# Altium schematic symbol library SCH_LIB_Assignment1.SchLib: 17 symbols
Pins are listed as number, name and electrical type; pins without a type are passive.

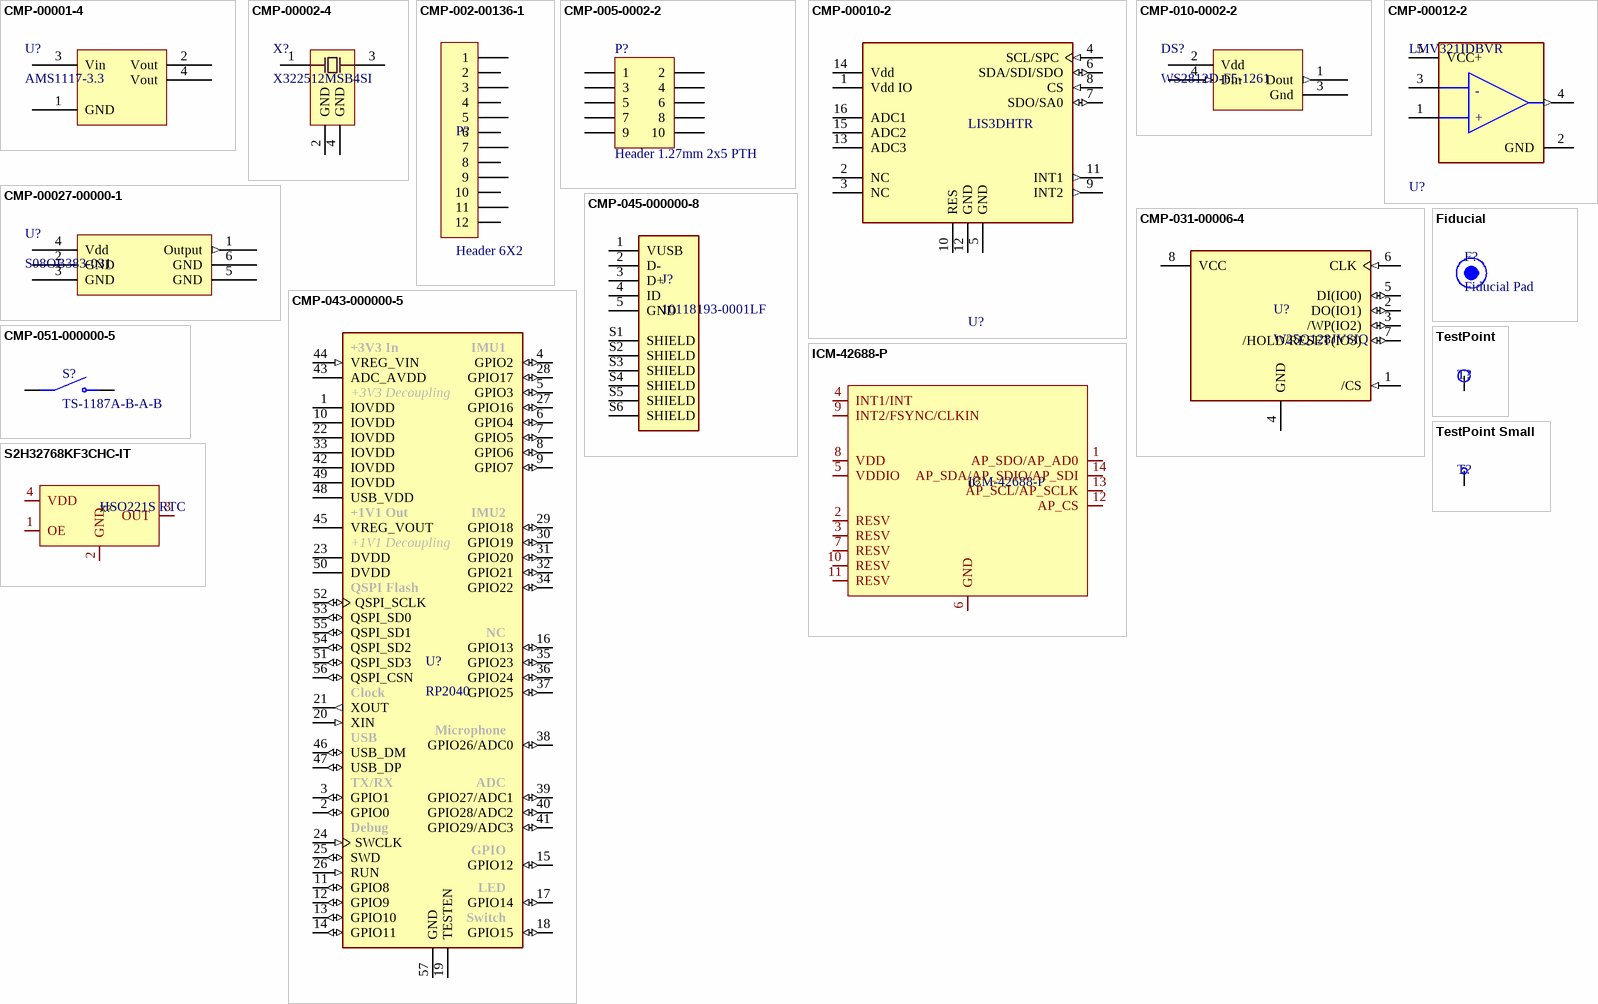
[diagram p0: symbols CMP-00001-4 to TestPoint Small]

## CMP-00001-4
designator U?, comment AMS1117-3.3
3.3V 1A LOW DROPOUT VOLTAGE REGULATOR SOT-223; Dropout voltage: 1.3 V; JLCPCB Part: C6186; Output current: 1 A; Output voltage: 3.3 V
footprint SOT230P700X180-4N (SOT223, 4-Leads, Body 6.51x7.00mm (avg), Pitch 2.30mm, IPC Medium Density)
pins: 1 GND (power), 2 Vout (power), 3 Vin (power), 4 Vout (power)

## CMP-00002-4
designator X?, comment X322512MSB4SI
12MHz SMD Crystal Resonator 20pF ±10ppm ±30ppm -40℃~+85℃ SMD3225-4P  Crystals ROHS Yangxing Tech; Max ESR: 80 Ω; Frequency: 12 MHz; JLCPCB Part: C9002; Load capacitance: 20 pF
footprint X322512MSB4SI-Footprint-1
pins: 1 OSC1, 2 GND, 3 OSC2, 4 GND

## CMP-002-00136-1
designator P?, comment Header 6X2
Header, 6-Pin, Dual row; Signal Integrity: Connector; Component Type: Standard; LatestRevisionNote: Re-released for DXP Platform.; Publisher: Altium Limited; Design Item ID: Header 6X2; LatestRevisionDate: 17-Jul-2002; Pin Count: 12; Source: Miscellaneous Connectors.SchLib
signal-integrity model Connector
footprint HDR2X6 (Connector; Header; 6x2 Position)
pins: 1, 2, 3, 4, 5, 6, 7, 8, 9, 10, 11, 12

## CMP-005-0002-2
designator P?, comment Header 1.27mm 2x5 PTH
Header 1.27mm pitch, 2x5, PTH through hole; Pins: 10; element14 Item: 1577743; Design Item ID: Header 1.27mm 2x5 PTH; Source: JCULibrary.SchLib; Component Type: Standard
footprint Header 1.27mm 2x5 PTH (Header 1.27mm pitch, 2x5, PTH through hole)
pins: 1, 2, 3, 4, 5, 6, 7, 8, 9, 10

## CMP-00010-2
designator U?, comment LIS3DHTR
ACCEL 2-16G I2C/SPI 16LGA; Interface: I2C; Max Supply Voltage: 3.6V; Axis: X, Y, Z; Operating Supply Voltage: 2.5V; Bandwidth: 5kHz; Resolution: 16b; Operating Supply Current: 11uA; Sensor Type: 3 Axis; Min Supply Voltage: 1.71V; Output Type: Digital; Series: -; Number of Pins: 16; Radiation Hardening: No; Package Quantity: 1; Case/Package: LGA; Contact Plating: Gold; Min Operating Temperature: -40°C; REACH SVHC: No SVHC; RoHS Compliant: Yes; Lead Free: Lead Free; Min Supply Voltage (DC): 1.71V; Length: 3mm; JLCPCB Part: C15134; Height: 1mm; Max Supply Voltage (DC): 3.6V; Width: 3mm; Max Operating Temperature: 85°C; Depth: 3mm; Packaging: Tape and Reel
footprint FP-LGA-16-7983231-MFG
pins: 1 Vdd IO (power), 2 NC, 3 NC, 4 SCL/SPC (in), 5 GND (power), 6 SDA/SDI/SDO (io), 7 SDO/SA0 (io), 8 CS (in), 9 INT2 (out), 10 RES, 11 INT1 (out), 12 GND (power), 13 ADC3, 14 Vdd (power), 15 ADC2, 16 ADC1

## CMP-010-0002-2
designator DS?, comment WS2812D-F5-1261
Through-hole addressable RGB LED, 5mm
footprint WS2812D-F5-1261-Footprint-1
pins: 1 Dout (out), 2 Vdd (power), 3 Gnd (power), 4 Din (in)

## CMP-00012-2
designator U?, comment LMV321IDBVR
General Purpose Amplifier 1 Circuit Rail-to-Rail SOT-23-5; Input Offset Voltage (Vos): 7mV; Number of Amplifiers: 1; Input Bias Current: 250nA; Max Supply Voltage: 5.5V; Min Supply Voltage: 2.7V; Voltage Gain: 100dB; Supply Current: 250uA; Operating Supply Current: 130uA; Output Current: 160mA; Power Supply Rejection Ratio (PSRR): 50dB; Unity Gain Bandwidth Product: 1MHz; Slew Rate: 1V/µs; Radiation Hardening: No; Case/Package: SOT-23-5; Amplifier Type: GENERAL PURPOSE; Contact Plating: Tin,Matte; Packaging: Tape and Reel; Number of Circuits: 1; Nominal Supply Current: 250uA; Mount: Surface Mount; Technology: BICMOS; JLCPCB Part: C7972; Series: -; REACH SVHC: No SVHC; Output Current per Channel: 160mA; Max Operating Temperature: 125°C; Number of Elements: 1; Number of Channels: 1; Number of Pins: 5; Lead Free: Lead Free; Bandwidth: 1MHz; Gain Bandwidth Product: 1MHz; RoHS Compliant: Yes; Min Operating Temperature: -40°C; Common Mode Rejection Ratio: 50dB; Package Quantity: 1
footprint FP-DBV0005A-MFG
pins: 1 1IN+ (hiz), 2 GND (power), 3 1IN- (hiz), 4 OUT (out), 5 VCC+ (power)
text: +

## CMP-00027-00000-1
designator U?, comment S08OB383-031
MEMS Microphone SMD 3.76x3x1.1mm; JLCPCB Part: C233789
footprint Goertek_S08OB381-026 (Goertek S08OB381-026 SMD package)
pins: 1 Output (out), 2 GND (power), 3 GND (power), 4 Vdd (power), 5 GND (power), 6 GND (power)

## CMP-031-00006-4
designator U?, comment W25Q128JVSIQ
FLASH - NOR Memory IC 128Mb (16M x 8) SPI - Quad I/O, QPI, DTR 133 MHz 8-SOIC; MF: Winbond Electronics; Pin Count: 8; Check_prices: https://www.snapeda.com/parts/W25Q128JVSIQ/Winbond+Electronics/view-part/?ref=eda; Package: SOIC-8 Winbond; MP: W25Q128JVSIQ; Component Type: Standard; JLCPCB Part: C97521; Source: W25Q128JVSIQ.SchLib; Design Item ID: W25Q128JVSIQ; Purchase-URL: https://pricing.snapeda.com/search/part/W25Q128JVSIQ/?ref=eda; Price: None; Availability: In Stock; SnapEDA_Link: https://www.snapeda.com/parts/W25Q128JVSIQ/Winbond+Electronics/view-part/?ref=snap; Value: *
footprint SOIC127P790X216-8N
pins: 1 /CS (in), 2 DO(IO1) (io), 3 /WP(IO2) (io), 4 GND (power), 5 DI(IO0) (io), 6 CLK (in), 7 /HOLD/RESET(IO3) (io), 8 VCC (power)

## CMP-043-000000-5
designator U?, comment RP2040
ARM Cortex-M0+ MCU 32-Bit Microcontroller for Raspberry Pi Pico; Package: None; Price: None; Availability: Available; JLCPCB Part: C2040; Design Item ID: RP2040; Component Type: Standard; Pin Count: 57; Source: RP2040.SchLib; Value: *; MP: RP2040
footprint QFN40P700X700X90-57N
pins: 1 IOVDD (power), 2 GPIO0 (io), 3 GPIO1 (io), 4 GPIO2 (io), 5 GPIO3 (io), 6 GPIO4 (io), 7 GPIO5 (io), 8 GPIO6 (io), 9 GPIO7 (io), 10 IOVDD (power), 11 GPIO8 (io), 12 GPIO9 (io), 13 GPIO10 (io), 14 GPIO11 (io), 15 GPIO12 (io), 16 GPIO13 (io), 17 GPIO14 (io), 18 GPIO15 (io), 19 TESTEN, 20 XIN (in), 21 XOUT (out), 22 IOVDD (power), 23 DVDD (power), 24 SWCLK (in), 25 SWD (io), 26 RUN (in), 27 GPIO16 (io), 28 GPIO17 (io), 29 GPIO18 (io), 30 GPIO19 (io), 31 GPIO20 (io), 32 GPIO21 (io), 33 IOVDD (power), 34 GPIO22 (io), 35 GPIO23 (io), 36 GPIO24 (io), 37 GPIO25 (io), 38 GPIO26/ADC0 (io), 39 GPIO27/ADC1 (io), 40 GPIO28/ADC2 (io), 41 GPIO29/ADC3 (io), 42 IOVDD (power), 43 ADC_AVDD (power), 44 VREG_VIN (in), 45 VREG_VOUT (power), 46 USB_DM (io), 47 USB_DP (io), 48 USB_VDD (power), 49 IOVDD (power), 50 DVDD (power), 51 QSPI_SD3 (io), 52 QSPI_SCLK (io), 53 QSPI_SD0 (io), 54 QSPI_SD2 (io), 55 QSPI_SD1 (io), 56 QSPI_CSN (io), 57 GND (power)
text: +3V3 In; IMU1; +3V3 Decoupling; +1V1 Out; IMU2; +1V1 Decoupling; QSPI Flash; NC; Clock; Microphone; USB; TX/RX; ADC; Debug; GPIO; LED; Switch

## CMP-045-000000-8
designator J?, comment 10118193-0001LF
USB - micro B USB 2.0 Receptacle Connector 5 Position Surface Mount, Right Angle; Through Hole; MF: Amphenol ICC; MP: 10118193-0001LF; Component Type: Standard; Design Item ID: 10118193-0001LF; JLCPCB Part: C132562; Pin Count: 11; Package: None; Source: SnapEDAsch.SchLib; SnapEDA_Link: https://www.snapeda.com/parts/10118193-0001LF/Amphenol%20FCI/view-part/2758989/?ref=snap
footprint FCI_10118193-0001LF
pins: 1 VUSB, 2 D-, 3 D+, 4 ID, 5 GND, S1 SHIELD, S2 SHIELD, S3 SHIELD, S4 SHIELD, S5 SHIELD, S6 SHIELD

## CMP-051-000000-5
designator S?, comment TS-1187A-B-A-B
SPST 50mA @ 12VDC Top Actuated Round Button 160gf SMD Tactile Switches RoHS; Value: *; Pin Count: 4; MP: TS-1187A-B-A-B; Price: None; JLCPCB Part: C318884; Availability: Unavailable; Design Item ID: TS-1187A-B-A-B; Package: None; Component Type: Standard; Source: TS-1187A-B-A-B.SchLib
footprint SW_TS-1187A-B-A-B
pins: A COM, B COM, C NO, D NO

## Fiducial
designator F?, comment Fiducial Pad
1x2mm Fiducial Pad
footprint Fiducial

## ICM-42688-P
designator U?
ICM-42688-P LGA-14(2.5x3) Attitude Sensor/Gyroscope; Manufacturer: TDK InvenSense(应美盛); Add into BOM: yes; Sensor Type: 加速度计陀螺仪; LCSC Part Name: ICM-42688-P; Supplier Part: C1850418; Manufacturer Part: ICM-42688-P; Supplier Footprint: LGA-14(2.5x3); JLCPCB Part Class: Extended Part; Datasheet: https://atta.szlcsc.com/upload/public/pdf/source/20210703/CF24204867ACE5B754A2B035F23E5931.pdf; Supplier: LCSC; Convert to PCB: yes; Device: ICM-42688-P; Symbol: ICM-42688-P; LCSC Part #: C1850418; JLCPCB Part #: C1850418
footprint LGA-14_L3.0-W2.5-P0.50-TL
pins: 1 AP_SDO/AP_AD0, 2 RESV, 3 RESV, 4 INT1/INT, 5 VDDIO, 6 GND, 7 RESV, 8 VDD, 9 INT2/FSYNC/CLKIN, 10 RESV, 11 RESV, 12 AP_CS, 13 AP_SCL/AP_SCLK, 14 AP_SDA/AP_SDIO/AP_SDI

## S2H32768KF3CHC-IT
designator X?, comment HSO221S RTC
HSO221S RTC - 3.3V 3mA ±30ppm 32.768kHz SMD2520-4P Oscillators ROHS; Manufacturer: HELE(台湾加高); Symbol: S2H32768KF3CHC-IT; Add into BOM: yes; Device: S2H32768KF3CHC-IT; LCSC Part Name: S2H32768KF3CHC-IT; Supplier Part: C253914; Manufacturer Part: S2H32768KF3CHC-IT; Supplier Footprint: SMD2520-4P; JLCPCB Part Class: Extended Part; Datasheet: https://atta.szlcsc.com/upload/public/pdf/source/20190430/C253914_C770A64EFF6E6E62846100D666617C6C.pdf; Supplier: LCSC; Convert to PCB: yes; Value: 32.768kHz; Supply Voltage: 3.3V; Supply Current (Max): 3mA; Frequency Stability(Full temperature range): ±30ppm; Operating Temperature: -30℃~+85℃; LCSC Part #: C253914; JLCPCB Part #: C253914
footprint OSC-SMD_4P-L2.5-W2.0-BL
pins: 1 OE, 2 GND, 3 OUT, 4 VDD

## TestPoint
designator T?, comment TP  (value not drawn)  (no BOM)
footprint TestPoint
pins: 1 TP

## TestPoint Small
designator T?, comment TP  (value not drawn)  (no BOM)
footprint TestPoint - Small
pins: 1 TP